# EAGLE library part 310010095_ATSAMD21G18A-MU (library Seeed-OPL-2017-01-IC-Akita)
ATSAMD21G18A-MU, SMD IC MCU;VFQFN-48 ExposePad, SKU: 310010095
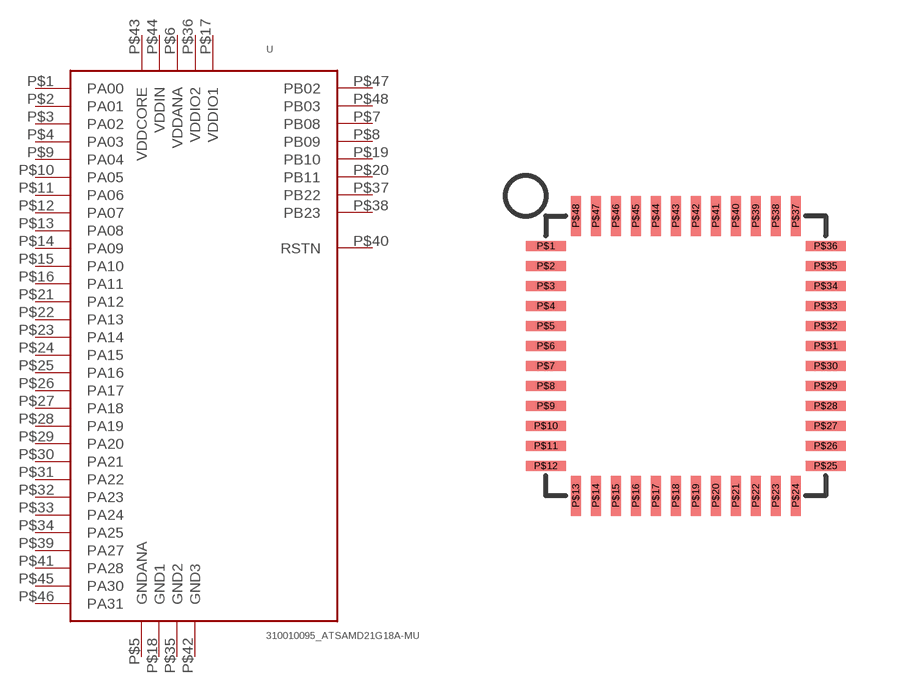
[diagram p1: symbol with the pads of VQFN48; footprint VQFN48]

Designator prefix U

## 310010095_ATSAMD21G18A-MU  [VQFN48]
P$1  PA00
P$2  PA01
P$3  PA02
P$4  PA03
P$5  GNDANA  pwr
P$6  VDDANA  pwr
P$7  PB08
P$8  PB09
P$9  PA04
P$10  PA05
P$11  PA06
P$12  PA07
P$13  PA08
P$14  PA09
P$15  PA10
P$16  PA11
P$17  VDDIO1  pwr
P$18  GND1  pwr
P$19  PB10
P$20  PB11
P$21  PA12
P$22  PA13
P$23  PA14
P$24  PA15
P$25  PA16
P$26  PA17
P$27  PA18
P$28  PA19
P$29  PA20
P$30  PA21
P$31  PA22
P$32  PA23
P$33  PA24
P$34  PA25
P$35  GND2  pwr
P$36  VDDIO2  pwr
P$37  PB22
P$38  PB23
P$39  PA27
P$40  RSTN
P$41  PA28
P$42  GND3  pwr
P$43  VDDCORE  pwr
P$44  VDDIN  pwr
P$45  PA30
P$46  PA31
P$47  PB02
P$48  PB03

## Footprint VQFN48 (pad centres in mm)
(V)QFN48 with ExposedPad
smd 1 x 0.25: P$1 -3.5,2.75; P$2 -3.5,2.25; P$3 -3.5,1.75; P$4 -3.5,1.25; P$5 -3.5,0.75; P$6 -3.5,0.25; P$7 -3.5,-0.25; P$8 -3.5,-0.75; P$9 -3.5,-1.25; P$10 -3.5,-1.75; P$11 -3.5,-2.25; P$12 -3.5,-2.75; P$25 3.5,-2.75; P$26 3.5,-2.25; P$27 3.5,-1.75; P$28 3.5,-1.25; P$29 3.5,-0.75; P$30 3.5,-0.25; P$31 3.5,0.25; P$32 3.5,0.75; P$33 3.5,1.25; P$34 3.5,1.75; P$35 3.5,2.25; P$36 3.5,2.75
smd 0.25 x 1: P$13 -2.75,-3.5; P$14 -2.25,-3.5; P$15 -1.75,-3.5; P$16 -1.25,-3.5; P$17 -0.75,-3.5; P$18 -0.25,-3.5; P$19 0.25,-3.5; P$20 0.75,-3.5; P$21 1.25,-3.5; P$22 1.75,-3.5; P$23 2.25,-3.5; P$24 2.75,-3.5; P$37 2.75,3.5; P$38 2.25,3.5; P$39 1.75,3.5; P$40 1.25,3.5; P$41 0.75,3.5; P$42 0.25,3.5; P$43 -0.25,3.5; P$44 -0.75,3.5; P$45 -1.25,3.5; P$46 -1.75,3.5; P$47 -2.25,3.5; P$48 -2.75,3.5